# EAGLE library part TS12A44514 (library pimoroni)
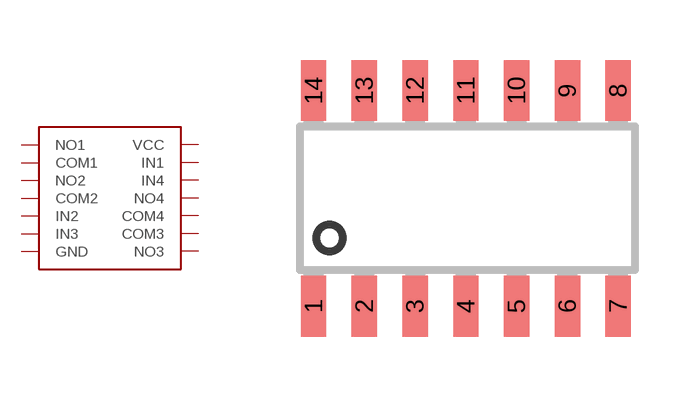
[diagram p17: symbol with the pads of SOIC14; footprint SOIC14]

Designator prefix -

## TS12A44514  [SOIC14]
1  NO1
2  COM1
3  NO2
4  COM2
5  IN2
6  IN3
7  GND
8  NO3
9  COM3
10  COM4
11  NO4
12  IN4
13  IN1
14  VCC

## Footprint SOIC14 (pad centres in mm)
smd 0.635 x 1.524: 1 -4.445,-2.695; 2 -3.175,-2.695; 3 -1.905,-2.695; 4 -0.635,-2.695; 5 0.635,-2.695; 6 1.905,-2.695; 7 3.175,-2.695; 8 3.175,2.695; 9 1.905,2.695; 10 0.635,2.695; 11 -0.635,2.695; 12 -1.905,2.695; 13 -3.175,2.695; 14 -4.445,2.695